# Altium schematic symbol library Interfaces CAN.SchLib: 1 symbol
Pins are listed as number, name and electrical type; pins without a type are passive.

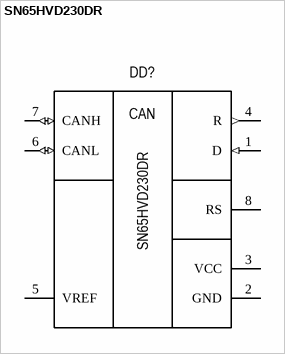
[diagram p0: symbol SN65HVD230DR]

## SN65HVD230DR
designator DD?
Interface CAN Transciever SOIC-8; Manufacturer: Texas Instruments; Voltage supply: 3.0V - 3.6V; Data rate: 1Mbps; Duplex: Half; Package: SOIC-8; Group: Interface; Part name: SN65HVD230DR; Operating temperature: -40°C +85°C; Height: 1.75mm; Dimension: 6.20mm x 5.00mm; Mounting type: Surface mount; Component: CAN; Interface type: CAN
footprint SOIC-8N
pins: 1 D (in) "CAN transmit data input (LOW for dominant and HIGH for recessive bus states), also called TXD, driver", 2 GND "Ground", 3 VCC "Supply", 4 R (out) "CAN receive data output (LOW for dominant and HIGH for recessive bus states), also called RXD, receiver", 5 VREF "VCC / 2 reference output pin", 6 CANL (io) "Low level CAN bus line", 7 CANH (io) "High level CAN bus line", 8 RS "Mode select pin: strong pull down to GND = high speed mode, strong"